# Altium schematic symbol library SCH - ARM CORTEX - STM STM32WL55UCYx.SchLib: 1 symbol
Pins are listed as number, name and electrical type; pins without a type are passive.

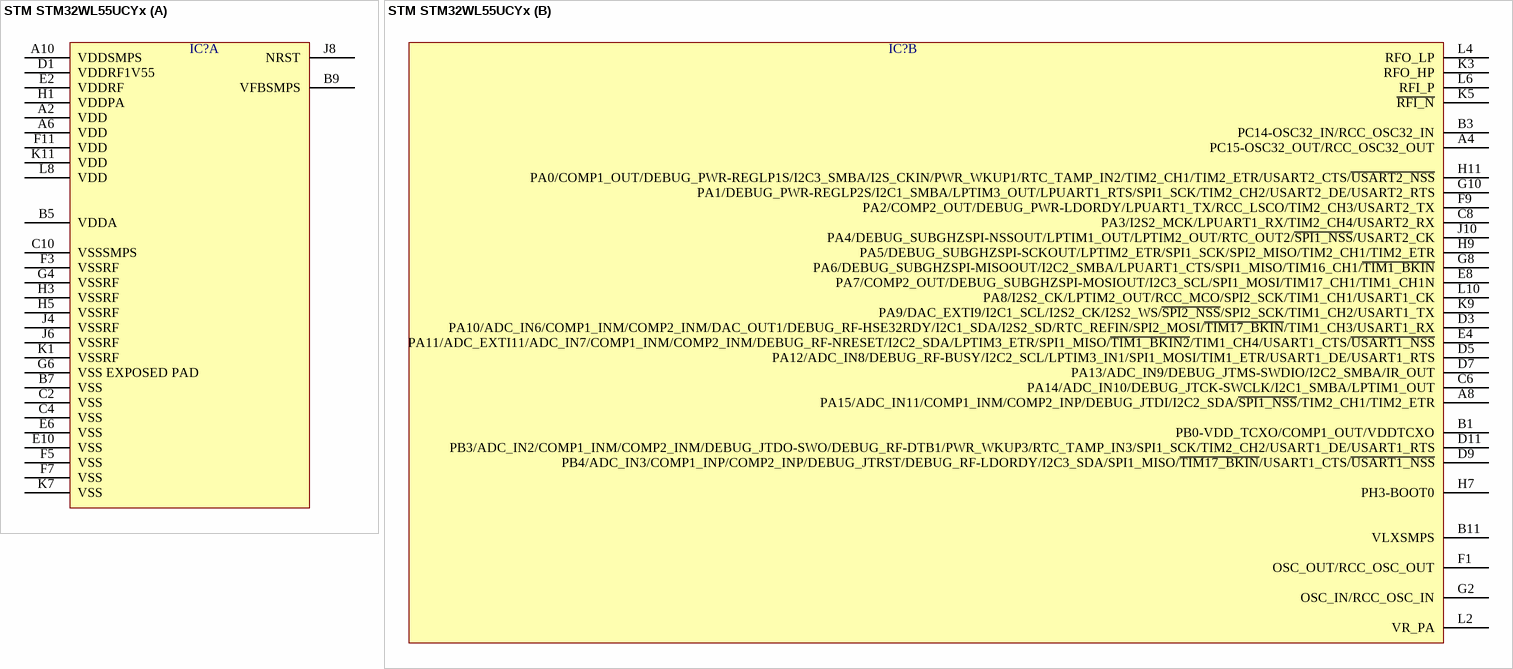
[diagram p0: symbol STM STM32WL55UCYx]

## STM STM32WL55UCYx
designator IC?  (value not drawn)
part A pins: A2 VDD, A6 VDD, A10 VDDSMPS, B5 VDDA, B7 VSS, B9 VFBSMPS, C2 VSS, C4 VSS, C10 VSSSMPS, D1 VDDRF1V55, E2 VDDRF, E6 VSS, E10 VSS, F3 VSSRF, F5 VSS, F7 VSS, F11 VDD, G4 VSSRF, G6 VSS EXPOSED PAD, H1 VDDPA, H3 VSSRF, H5 VSSRF, J4 VSSRF, J6 VSSRF, J8 NRST, K1 VSSRF, K7 VSS, K11 VDD, L8 VDD
part B pins: A4 PC15-OSC32_OUT/RCC_OSC32_OUT, A8 PA15/ADC_IN11/COMP1_INM/COMP2_INP/DEBUG_JTDI/I2C2_SDA/~{SPI1_NSS}/TIM2_CH1/TIM2_ETR, B1 PB0-VDD_TCXO/COMP1_OUT/VDDTCXO, B3 PC14-OSC32_IN/RCC_OSC32_IN, B11 VLXSMPS, C6 PA14/ADC_IN10/DEBUG_JTCK-SWCLK/I2C1_SMBA/LPTIM1_OUT, C8 PA3/I2S2_MCK/LPUART1_RX/TIM2_CH4/USART2_RX, D3 PA10/ADC_IN6/COMP1_INM/COMP2_INM/DAC_OUT1/DEBUG_RF-HSE32RDY/I2C1_SDA/I2S2_SD/RTC_REFIN/SPI2_MOSI/~{TIM17_BKIN}/TIM1_CH3/USART1_RX, D5 PA12/ADC_IN8/DEBUG_RF-BUSY/I2C2_SCL/LPTIM3_IN1/SPI1_MOSI/TIM1_ETR/USART1_DE/USART1_RTS, D7 PA13/ADC_IN9/DEBUG_JTMS-SWDIO/I2C2_SMBA/IR_OUT, D9 PB4/ADC_IN3/COMP1_INP/COMP2_INP/DEBUG_JTRST/DEBUG_RF-LDORDY/I2C3_SDA/SPI1_MISO/~{TIM17_BKIN}/USART1_CTS/~{USART1_NSS}, D11 PB3/ADC_IN2/COMP1_INM/COMP2_INM/DEBUG_JTDO-SWO/DEBUG_RF-DTB1/PWR_WKUP3/RTC_TAMP_IN3/SPI1_SCK/TIM2_CH2/USART1_DE/USART1_RTS, E4 PA11/ADC_EXTI11/ADC_IN7/COMP1_INM/COMP2_INM/DEBUG_RF-NRESET/I2C2_SDA/LPTIM3_ETR/SPI1_MISO/~{TIM1_BKIN2}/TIM1_CH4/USART1_CTS/~{USART1_NSS}, E8 PA7/COMP2_OUT/DEBUG_SUBGHZSPI-MOSIOUT/I2C3_SCL/SPI1_MOSI/TIM17_CH1/TIM1_CH1N, F1 OSC_OUT/RCC_OSC_OUT, F9 PA2/COMP2_OUT/DEBUG_PWR-LDORDY/LPUART1_TX/RCC_LSCO/TIM2_CH3/USART2_TX, G2 OSC_IN/RCC_OSC_IN, G8 PA6/DEBUG_SUBGHZSPI-MISOOUT/I2C2_SMBA/LPUART1_CTS/SPI1_MISO/TIM16_CH1/~{TIM1_BKIN}, G10 PA1/DEBUG_PWR-REGLP2S/I2C1_SMBA/LPTIM3_OUT/LPUART1_RTS/SPI1_SCK/TIM2_CH2/USART2_DE/USART2_RTS, H7 PH3-BOOT0, H9 PA5/DEBUG_SUBGHZSPI-SCKOUT/LPTIM2_ETR/SPI1_SCK/SPI2_MISO/TIM2_CH1/TIM2_ETR, H11 PA0/COMP1_OUT/DEBUG_PWR-REGLP1S/I2C3_SMBA/I2S_CKIN/PWR_WKUP1/RTC_TAMP_IN2/TIM2_CH1/TIM2_ETR/USART2_CTS/~{USART2_NSS}, J10 PA4/DEBUG_SUBGHZSPI-NSSOUT/LPTIM1_OUT/LPTIM2_OUT/RTC_OUT2/~{SPI1_NSS}/USART2_CK, K3 RFO_HP, K5 ~{RFI_N}, K9 PA9/DAC_EXTI9/I2C1_SCL/I2S2_CK/I2S2_WS/~{SPI2_NSS}/SPI2_SCK/TIM1_CH2/USART1_TX, L2 VR_PA, L4 RFO_LP, L6 RFI_P, L10 PA8/I2S2_CK/LPTIM2_OUT/RCC_MCO/SPI2_SCK/TIM1_CH1/USART1_CK